# Altium schematic symbol library MEMS_Relay_Symbols.SchLib: 12 symbols
Pins are listed as number, name and electrical type; pins without a type are passive.

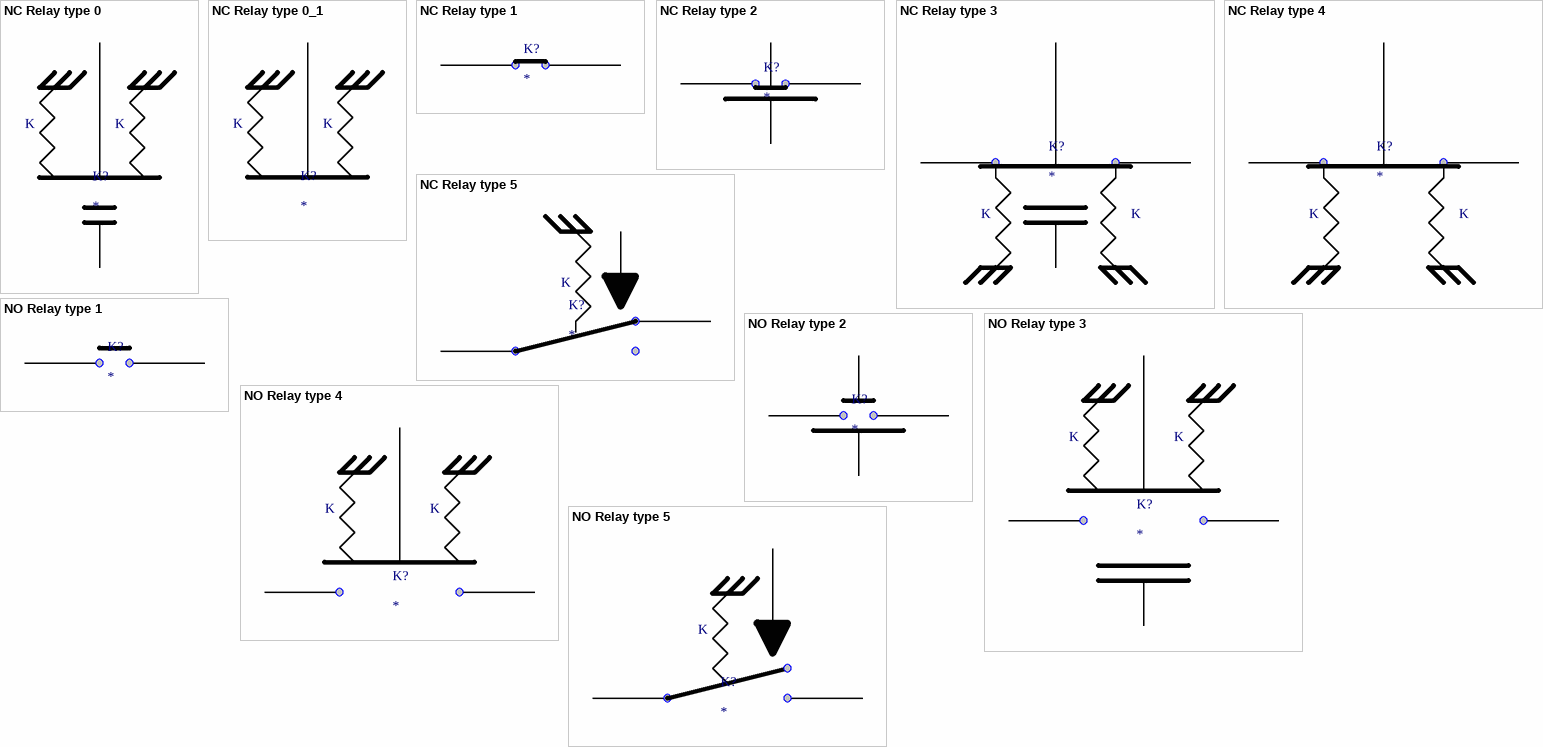
[diagram p0: symbols NC Relay type 0 to NO Relay type 5]

## NC Relay type 0
designator K?
pins: 1 (power) "Positive Supply", 2 (power) "Positive Supply"
text: K

## NC Relay type 0_1
designator K?
pins: 1 (power) "Positive Supply"
text: K

## NC Relay type 1
designator K?
pins: 1 (power) "Positive Supply", 2 (power) "Positive Supply"

## NC Relay type 2
designator K?
pins: 1 (power) "Positive Supply", 2 (power) "Positive Supply", 3 (power) "Positive Supply", 4 Substrate (power) "Positive Supply"

## NC Relay type 3
designator K?
pins: 1 (power) "Positive Supply", 2 (power) "Positive Supply", 3 Cantilever (power) "Positive Supply", 4 (power) "Positive Supply"
text: K

## NC Relay type 4
designator K?
pins: 1 (power) "Positive Supply", 2 (power) "Positive Supply", 3 Cantilever (power) "Positive Supply"
text: K

## NC Relay type 5
designator K?
pins: 1 (power) "Positive Supply", 2 (power) "Positive Supply", 3 Cantilever (power) "Positive Supply"
text: K

## NO Relay type 1
designator K?
pins: 1 (power) "Positive Supply", 2 (power) "Positive Supply"

## NO Relay type 2
designator K?
pins: 1 (power) "Positive Supply", 2 (power) "Positive Supply", 3 Cantilever (power) "Positive Supply", 4 (power) "Positive Supply"

## NO Relay type 3
designator K?
pins: 1 (power) "Positive Supply", 2 (power) "Positive Supply", 3 Cantilever (power) "Positive Supply", 4 (power) "Positive Supply", 4 Cantilever (power) "Positive Supply"
text: K

## NO Relay type 4
designator K?
pins: 1 (power) "Positive Supply", 2 (power) "Positive Supply", 3 Cantilever (power) "Positive Supply", 4 Cantilever (power) "Positive Supply"
text: K

## NO Relay type 5
designator K?
pins: 1 (power) "Positive Supply", 2 (power) "Positive Supply", 3 Cantilever (power) "Positive Supply"
text: K